# EAGLE library part 62131021021 (library Headers)
1.27mm SMT Straight Dual Pin Header WR-PHD 10POS Manufacturer's datasheet <https://katalog.we-online.com/em/datasheet/62131021021.pdf>
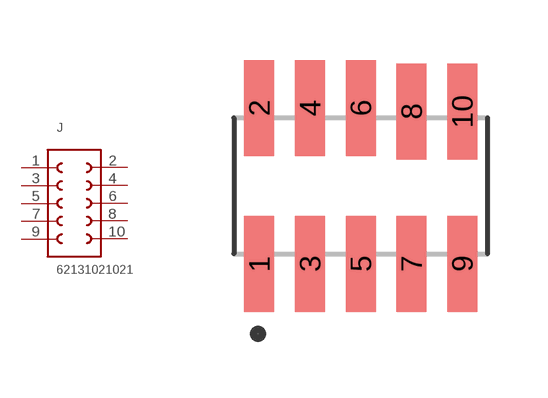
[diagram p34: symbol with the pads of 62131021021; footprint 62131021021]

Designator prefix J

## 62131021021 (CREATED_BY: PCBLayout.com; MANUFACTURER: WURTH ELEKTRONIK; MPN: 62131021021)  [62131021021]
1  1  pas
2  2  pas
3  3  pas
4  4  pas
5  5  pas
6  6  pas
7  7  pas
8  8  pas
9  9  pas
10  10  pas

## Footprint 62131021021 (pad centres in mm)
smd 0.75 x 2.4: 1 -2.54,-1.95; 2 -2.54,1.95; 3 -1.27,-1.95; 4 -1.27,1.95; 5 0,-1.95; 6 0,1.95; 7 1.27,-1.95; 8 1.27,1.86; 9 2.54,-1.95; 10 2.54,1.86